# Altium footprint library SSQ-110-03-T-S.PcbLib: 1 footprints
Each footprint in its own frame and in the unit in brackets; x right, y up, seen from the top. Pads: shape width x height; smd on the part's side, far side on the other; paste and mask are expansions set on the pad; w line width, h text height; cw(c..) or ccw(c..) is an arc to the next point about the centre after c.
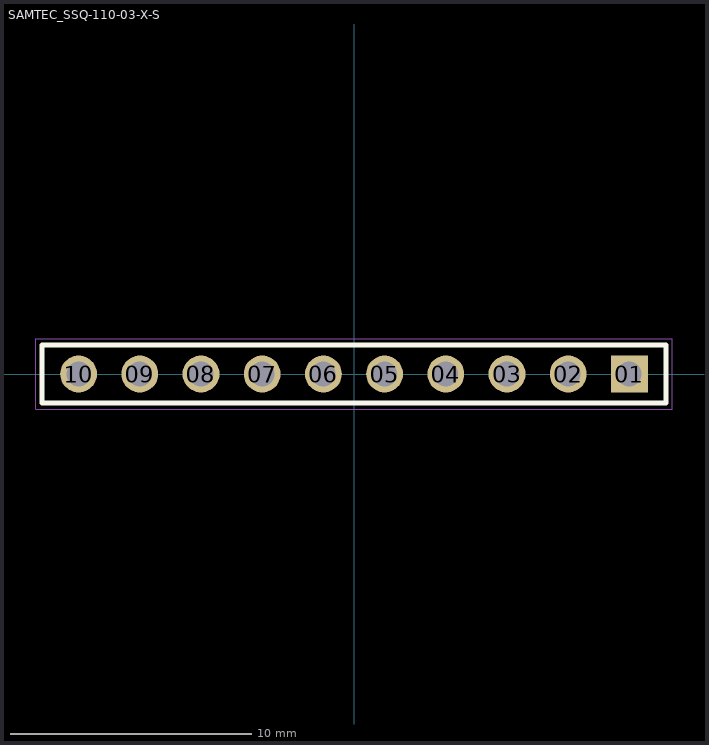
[diagram p0: the footprint, top view; thin cyan lines are the x and y axes]

## SAMTEC_SSQ-110-03-X-S [mm]
pads (10):
  rect 1.53x1.53 hole 1.02: 01(11.43,0)
  round 1.53 hole 1.02: 02(8.89,0) 03(6.35,0) 04(3.81,0) 05(1.27,0) 06(-1.27,0) 07(-3.81,0) 08(-6.35,0) 09(-8.89,0) 10(-11.43,0)
Top Overlay:
  lines w0.2: -12.955,-1.205 12.955,-1.205 12.955,1.205 -12.955,1.205 -12.955,-1.205
Mechanical 13:
  lines w0.1: -12.955,-1.205 12.955,-1.205 12.955,1.205 -12.955,1.205 -12.955,-1.205
Mechanical 15:
  lines w0.05: -13.205,-1.455 13.205,-1.455 13.205,1.455 -13.205,1.455 -13.205,-1.455